# Altium schematic symbol library WCD9320.SchLib: 1 symbol
Pins are listed as number, name and electrical type; pins without a type are passive.

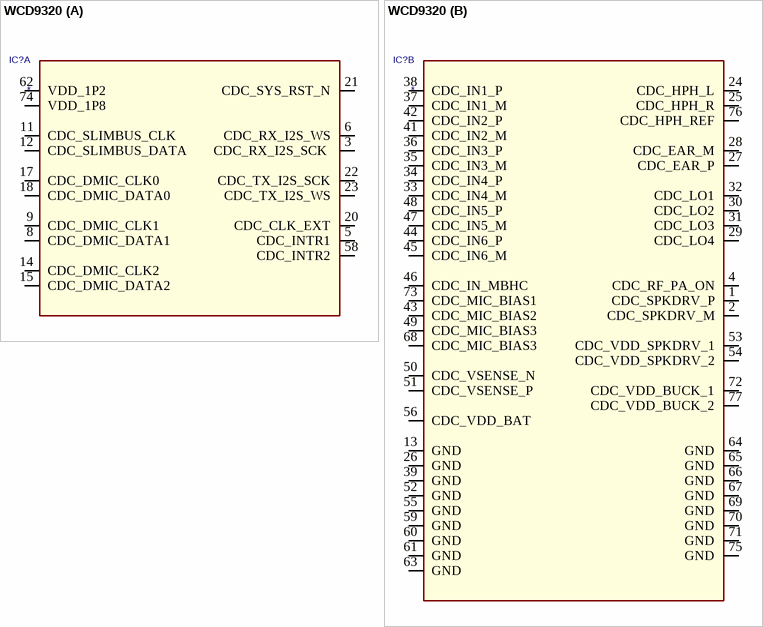
[diagram p0: symbol WCD9320]

## WCD9320
designator IC?
ID: WCD9320; PRICE: *; PDF: *; BUY_LINK: *
footprint WCD9320
part A pins: 3 CDC_RX_I2S_SCK , 5 CDC_INTR1, 6 CDC_RX_I2S_WS, 8 CDC_DMIC_DATA1, 9 CDC_DMIC_CLK1, 11 CDC_SLIMBUS_CLK, 12 CDC_SLIMBUS_DATA, 14 CDC_DMIC_CLK2, 15 CDC_DMIC_DATA2, 17 CDC_DMIC_CLK0, 18 CDC_DMIC_DATA0, 20 CDC_CLK_EXT, 21 CDC_SYS_RST_N, 22 CDC_TX_I2S_SCK, 23 CDC_TX_I2S_WS, 58 CDC_INTR2, 62 VDD_1P2, 74 VDD_1P8
part B pins: 1 CDC_SPKDRV_P, 2 CDC_SPKDRV_M, 4 CDC_RF_PA_ON, 13 GND, 24 CDC_HPH_L, 25 CDC_HPH_R, 26 GND, 27 CDC_EAR_P, 28 CDC_EAR_M, 29 CDC_LO4, 30 CDC_LO2, 31 CDC_LO3, 32 CDC_LO1, 33 CDC_IN4_M, 34 CDC_IN4_P, 35 CDC_IN3_M, 36 CDC_IN3_P, 37 CDC_IN1_M, 38 CDC_IN1_P, 39 GND, 41 CDC_IN2_M, 42 CDC_IN2_P, 43 CDC_MIC_BIAS2, 44 CDC_IN6_P, 45 CDC_IN6_M, 46 CDC_IN_MBHC, 47 CDC_IN5_M, 48 CDC_IN5_P, 49 CDC_MIC_BIAS3, 50 CDC_VSENSE_N, 51 CDC_VSENSE_P, 52 GND, 53 CDC_VDD_SPKDRV_1, 54 CDC_VDD_SPKDRV_2, 55 GND, 56 CDC_VDD_BAT, 59 GND, 60 GND, 61 GND, 63 GND, 64 GND, 65 GND, 66 GND, 67 GND, 68 CDC_MIC_BIAS3, 69 GND, 70 GND, 71 GND, 72 CDC_VDD_BUCK_1, 73 CDC_MIC_BIAS1, 75 GND, 76 CDC_HPH_REF, 77 CDC_VDD_BUCK_2